# Altium schematic symbol library MyDesign.SCHLIB: 24 symbols
Pins are listed as number, name and electrical type; pins without a type are passive.

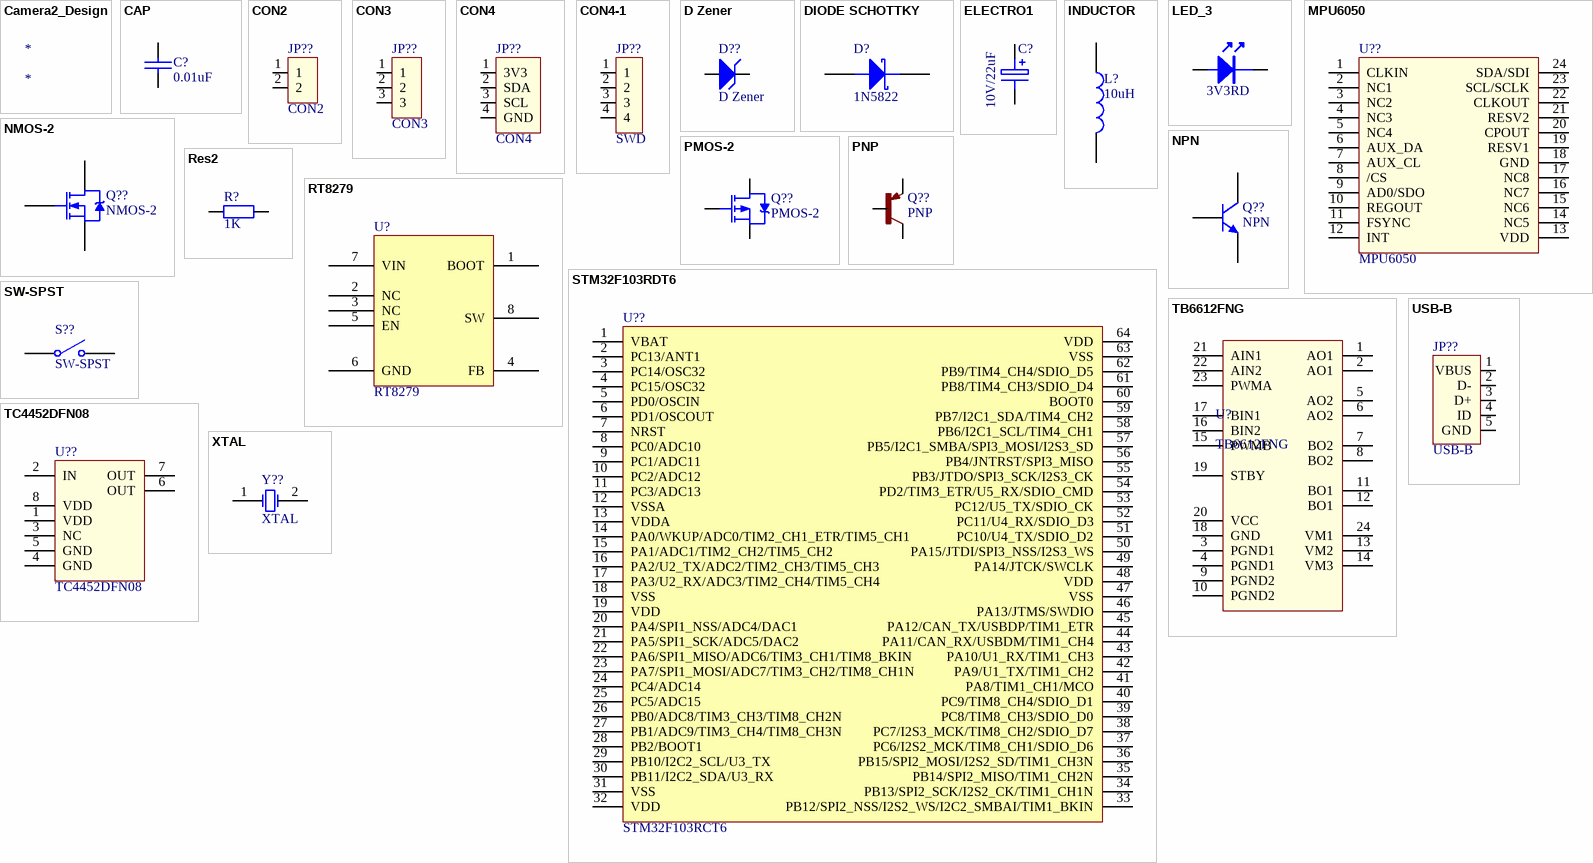
[diagram p0: symbols Camera2_Design to XTAL]

## Camera2_Design
designator *

## CAP
designator C?, comment 0.01uF
Capacitor
footprint RES_0603_B
footprint C0603_B
footprint C0603B
pins: 1, 2

## CON2
designator JP??
pins: 1, 2

## CON3
designator JP??
pins: 1, 2, 3

## CON4
designator JP??
pins: 1 3V3, 2 SDA, 3 SCL, 4 GND

## CON4-1
designator JP??, comment SWD
pins: 1, 2, 3, 4

## D Zener
designator D??
Zener Diode; Published: 8-Jun-2000; LatestRevisionDate: 17-Jul-2002; LatestRevisionNote: Re-released for DXP Platform.; PackageReference: DIODE-0.7; Publisher: Altium Limited; PackageDescription: Diode, Thru-Hole; 2 Leads; 0.7 in Pin Spacing
footprint DIODE-0.7 (Diode, Thru-Hole; 2 Leads; 0.7 in Pin Spacing)
simulation model ZENER (Diode)
signal-integrity model D Zener
pins: 1 A, 2 K

## DIODE SCHOTTKY
designator D?, comment 1N5822
Schottky Diode
footprint IN5822
footprint DO-1810
pins: A, K

## ELECTRO1
designator C?, comment 10V/22uF
Electrolytic Capacitor
footprint C1210
pins: 1, 2

## INDUCTOR
designator L?, comment 10uH
footprint L-10X10X4
pins: 1, 2

## LED_3
designator 1?, comment 3V3RD
footprint LED0805R
pins: 1, 2

## MPU6050
designator U??
pins: 1 CLKIN, 2 NC1, 3 NC2, 4 NC3, 5 NC4, 6 AUX_DA, 7 AUX_CL, 8 /CS, 9 AD0/SDO, 10 REGOUT, 11 FSYNC, 12 INT, 13 VDD, 14 NC5, 15 NC6, 16 NC7, 17 NC8, 18 GND, 19 RESV1, 20 CPOUT, 21 RESV2, 22 CLKOUT, 23 SCL/SCLK, 24 SDA/SDI

## NMOS-2
designator Q??
N-Channel Power MOSFET; Note: Pin 2 is electrically connected to pin 4.; Published: 8-Jun-2000; LatestRevisionDate: 17-Jul-2002; LatestRevisionNote: Re-released for DXP Platform.; DatasheetVersion: PD-9.814; PackageVersion: Feb-1997; PackageReference: TO-220AB; Publisher: Altium Limited; PackageDescription: TO, Thru-Hole, Vertical, Heatsink Mounted; 3 In-Line Leads; Pitch 2.54 mm; ComponentLink1Description: Manufacturer Link; ComponentLink1URL: http://www.irf.com/
footprint TO-220AB (TO, Thru-Hole, Vertical, Heatsink Mounted; 3 In-Line Leads; Pitch 2.54 mm)
simulation model IRF1010 (Spice Subcircuit)
pins: 1 G, 2 D, 3 S

## NPN
designator Q??
NPN Bipolar Transistor; Published: 8-Jun-2000; LatestRevisionDate: 17-Jul-2002; LatestRevisionNote: Re-released for DXP Platform.; PackageReference: TO-226-AA; Publisher: Altium Limited; PackageDescription: TO, Flat Index; 3 In-Line, Axial Leads; Body Dia. 4.8mm; Leads 0.55 x 0.51 mm (max); Code_JEDEC: TO-226-AA
footprint TO-226-AA (TO, Flat Index; 3 In-Line, Axial Leads; Body Dia. 4.8mm; Leads 0.55 x 0.51 mm (max))
simulation model NPN
signal-integrity model NPN
pins: 1 B, 2 C, 3 E

## PMOS-2
designator Q??
P-Channel Power MOSFET; Note: Pin 4 not drawn and electrically connected to Pin 2.; Published: 8-Jun-2000; LatestRevisionDate: 17-Jul-2002; LatestRevisionNote: Re-released for DXP Platform.; DatasheetVersion: PD-9.390D; PackageVersion: Feb-1997; PackageReference: TO-220AB; Publisher: Altium Limited; PackageDescription: TO, Thru-Hole, Vertical, Heatsink Mounted; 3 In-Line Leads; Pitch 2.54 mm; ComponentLink1Description: Manufacturer Link; ComponentLink1URL: http://www.irf.com/
footprint TO-220AB (TO, Thru-Hole, Vertical, Heatsink Mounted; 3 In-Line Leads; Pitch 2.54 mm)
simulation model IRF9510 (Spice Subcircuit)
pins: 1 G, 2 D, 3 S

## PNP
designator Q??
pins: B, C, E

## Res2
designator R?, comment 1K
Resistor; Published: 8-Jun-2000; LatestRevisionDate: 17-Jul-2002; LatestRevisionNote: Re-released for DXP Platform.; PackageReference: AXIAL-0.4; Publisher: Altium Limited; PackageDescription: Axial Device, Thru-Hole; 2 Leads; 0.4 in Pin Spacing; Value: 1K
footprint AXIAL-0.4 (Axial Device, Thru-Hole; 2 Leads; 0.4 in Pin Spacing)
simulation model RESISTOR (Resistor)
signal-integrity model Res
footprint RES_0603_B
footprint R0603B
pins: 1, 2

## RT8279
designator U?
footprint tps5430
pins: 1 BOOT, 2 NC, 3 NC, 4 FB, 5 EN, 6 GND, 7 VIN, 8 SW

## STM32F103RDT6
designator U??, comment STM32F103RCT6
footprint LQFP64
pins: 1 VBAT, 2 PC13/ANT1, 3 PC14/OSC32, 4 PC15/OSC32, 5 PD0/OSCIN, 6 PD1/OSCOUT, 7 NRST, 8 PC0/ADC10, 9 PC1/ADC11, 10 PC2/ADC12, 11 PC3/ADC13, 12 VSSA, 13 VDDA, 14 PA0/WKUP/ADC0/TIM2_CH1_ETR/TIM5_CH1, 15 PA1/ADC1/TIM2_CH2/TIM5_CH2, 16 PA2/U2_TX/ADC2/TIM2_CH3/TIM5_CH3, 17 PA3/U2_RX/ADC3/TIM2_CH4/TIM5_CH4, 18 VSS, 19 VDD, 20 PA4/SPI1_NSS/ADC4/DAC1, 21 PA5/SPI1_SCK/ADC5/DAC2, 22 PA6/SPI1_MISO/ADC6/TIM3_CH1/TIM8_BKIN, 23 PA7/SPI1_MOSI/ADC7/TIM3_CH2/TIM8_CH1N, 24 PC4/ADC14, 25 PC5/ADC15, 26 PB0/ADC8/TIM3_CH3/TIM8_CH2N, 27 PB1/ADC9/TIM3_CH4/TIM8_CH3N, 28 PB2/BOOT1, 29 PB10/I2C2_SCL/U3_TX, 30 PB11/I2C2_SDA/U3_RX, 31 VSS, 32 VDD, 33 PB12/SPI2_NSS/I2S2_WS/I2C2_SMBAI/TIM1_BKIN, 34 PB13/SPI2_SCK/I2S2_CK/TIM1_CH1N, 35 PB14/SPI2_MISO/TIM1_CH2N, 36 PB15/SPI2_MOSI/I2S2_SD/TIM1_CH3N, 37 PC6/I2S2_MCK/TIM8_CH1/SDIO_D6, 38 PC7/I2S3_MCK/TIM8_CH2/SDIO_D7, 39 PC8/TIM8_CH3/SDIO_D0, 40 PC9/TIM8_CH4/SDIO_D1, 41 PA8/TIM1_CH1/MCO, 42 PA9/U1_TX/TIM1_CH2, 43 PA10/U1_RX/TIM1_CH3, 44 PA11/CAN_RX/USBDM/TIM1_CH4, 45 PA12/CAN_TX/USBDP/TIM1_ETR, 46 PA13/JTMS/SWDIO, 47 VSS, 48 VDD, 49 PA14/JTCK/SWCLK, 50 PA15/JTDI/SPI3_NSS/I2S3_WS, 51 PC10/U4_TX/SDIO_D2, 52 PC11/U4_RX/SDIO_D3, 53 PC12/U5_TX/SDIO_CK, 54 PD2/TIM3_ETR/U5_RX/SDIO_CMD, 55 PB3/JTDO/SPI3_SCK/I2S3_CK, 56 PB4/JNTRST/SPI3_MISO, 57 PB5/I2C1_SMBA/SPI3_MOSI/I2S3_SD, 58 PB6/I2C1_SCL/TIM4_CH1, 59 PB7/I2C1_SDA/TIM4_CH2, 60 BOOT0, 61 PB8/TIM4_CH3/SDIO_D4, 62 PB9/TIM4_CH4/SDIO_D5, 63 VSS, 64 VDD

## SW-SPST
designator S??
Single-Pole, Single-Throw Switch; Published: 24-Mar-1999; LatestRevisionDate: 17-Jul-2002; LatestRevisionNote: Re-released for DXP Platform.; PackageReference: SPST-2; Publisher: Altium Limited; PackageDescription: Switch; 2 Leads
footprint SPST-2 (Switch; 2 Leads)
pins: 1 COMMON, 2 NO

## TB6612FNG
designator U?
pins: 1 AO1, 2 AO1, 3 PGND1, 4 PGND1, 5 AO2, 6 AO2, 7 BO2, 8 BO2, 9 PGND2, 10 PGND2, 11 BO1, 12 BO1, 13 VM2, 14 VM3, 15 PWMB, 16 BIN2, 17 BIN1, 18 GND, 19 STBY, 20 VCC, 21 AIN1, 22 AIN2, 23 PWMA, 24 VM1

## TC4452DFN08
designator U??
pins: 1 VDD, 2 IN (power), 3 NC, 4 GND (power), 5 GND (power), 6 OUT, 7 OUT, 8 VDD

## USB-B
designator JP??
pins: 1 VBUS, 2 D-, 3 D+, 4 ID, 5 GND

## XTAL
designator Y??
Crystal Oscillator; Published: 8-Jun-2000; LatestRevisionDate: 17-Jul-2002; LatestRevisionNote: Re-released for DXP Platform.; PackageReference: R38; Publisher: Altium Limited; PackageDescription: Crystal, Thru-Hole; 2 Leads; Body 3.1 x 8.2 mm (Dia.xH)
footprint R38 (Crystal, Thru-Hole; 2 Leads; Body 3.1 x 8.2 mm (Dia.xH))
simulation model XTAL (Spice Subcircuit)
pins: 1 OSC1, 2 OSC2